# Altium footprint library 5535070-5.PcbLib: 1 footprints
Each footprint in its own frame and in the unit in brackets; x right, y up, seen from the top. Pads: shape width x height; smd on the part's side, far side on the other; paste and mask are expansions set on the pad; w line width, h text height; cw(c..) or ccw(c..) is an arc to the next point about the centre after c.
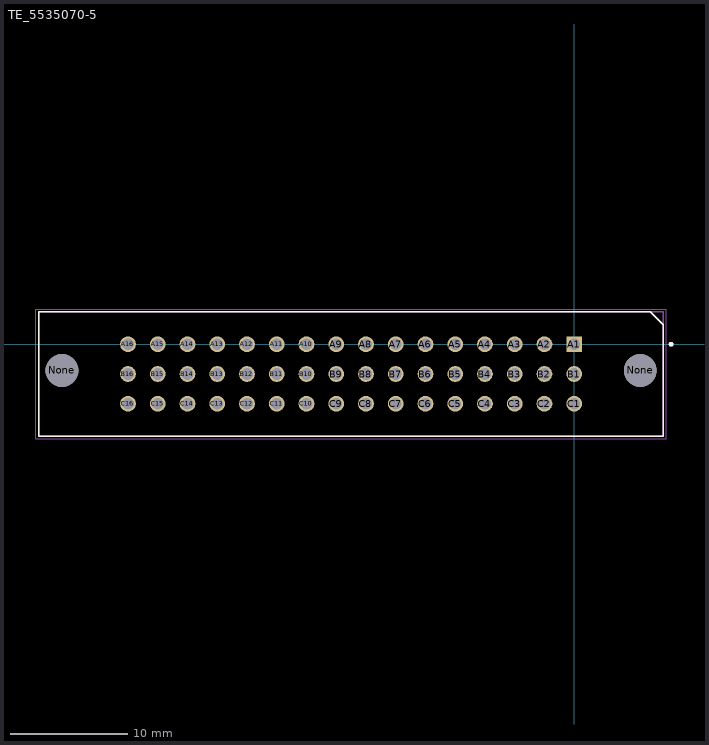
[diagram p0: the footprint, top view; thin cyan lines are the x and y axes]

## TE_5535070-5 [mm]
pads (50):
  rect 1.35x1.35 hole 1: A1(0,0)
  round 1.35 hole 1: A2(-2.54,0) A3(-5.08,0) A4(-7.62,0) A5(-10.16,0) A6(-12.7,0) A7(-15.24,0) A8(-17.78,0) A9(-20.32,0) A10(-22.86,0) A11(-25.4,0) A12(-27.94,0) A13(-30.48,0) A14(-33.02,0) A15(-35.56,0) A16(-38.1,0) B1(0,-2.54) B2(-2.54,-2.54) B3(-5.08,-2.54) B4(-7.62,-2.54) B5(-10.16,-2.54) B6(-12.7,-2.54) B7(-15.24,-2.54) B8(-17.78,-2.54) B9(-20.32,-2.54) B10(-22.86,-2.54) B11(-25.4,-2.54) B12(-27.94,-2.54) B13(-30.48,-2.54) B14(-33.02,-2.54) B15(-35.56,-2.54) B16(-38.1,-2.54) C1(0,-5.08) C2(-2.54,-5.08) C3(-5.08,-5.08) C4(-7.62,-5.08) C5(-10.16,-5.08) C6(-12.7,-5.08) C7(-15.24,-5.08) C8(-17.78,-5.08) C9(-20.32,-5.08) C10(-22.86,-5.08) C11(-25.4,-5.08) C12(-27.94,-5.08) C13(-30.48,-5.08) C14(-33.02,-5.08) C15(-35.56,-5.08) C16(-38.1,-5.08)
  round 2.79 hole 2.79 unplated: None(-43.74,-2.24) None(5.64,-2.24)
Top Overlay:
  circle w0.2: c8.27,0 r0.1
  lines w0.127: -45.72,-7.835 -45.72,2.755 6.516,2.755 7.62,1.651 7.62,-7.835 -45.72,-7.835
Mechanical 4:
  circle w0.2: c8.27,0 r0.1
  circle w0.2: c8.27,0 r0.1
  lines w0.127: -45.72,-7.835 -45.72,2.755 ; -45.72,-7.835 7.62,-7.835 ; -45.72,-7.835 7.62,-7.835 ; -45.72,-7.835 -45.72,2.755 ; -45.72,-7.835 7.62,-7.835 ; -45.72,-7.835 7.62,-7.835 ; -45.72,2.755 7.62,2.755 ; -45.72,2.755 7.62,2.755 ; 7.62,-7.835 7.62,2.755 ; 7.62,-7.835 7.62,2.755
Mechanical 16:
  lines w0.05: -45.97,-8.085 -45.97,3.005 7.87,3.005 7.87,-8.085 -45.97,-8.085
3D body "c-5535070-5-a-3d.stp": height 11.51, standoff -3.29, extent -45.595,-7.84 7.62,2.76